# Altium schematic symbol library MIC2026.SchLib: 1 symbol
Pins are listed as number, name and electrical type; pins without a type are passive.

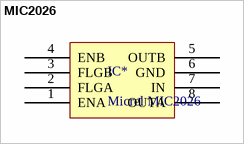
[diagram p0: symbol MIC2026]

## MIC2026
designator IC*, comment Micrel MIC2026
Micrel MIC2026 Dual-Channel Power Distribution Switch
footprint 8-Pin SOIC (SOIC, 8-Leads, Body 6.0x4.0mm (max), Pitch 1.27mm, IPC Medium Density)
pins: 1 ENA, 2 FLGA, 3 FLGB, 4 ENB, 5 OUTB, 6 GND, 7 IN, 8 OUTA